# Altium integrated library Microchip Power Management Line Regulator.IntLib: 1174 symbols (part 8 of 31)
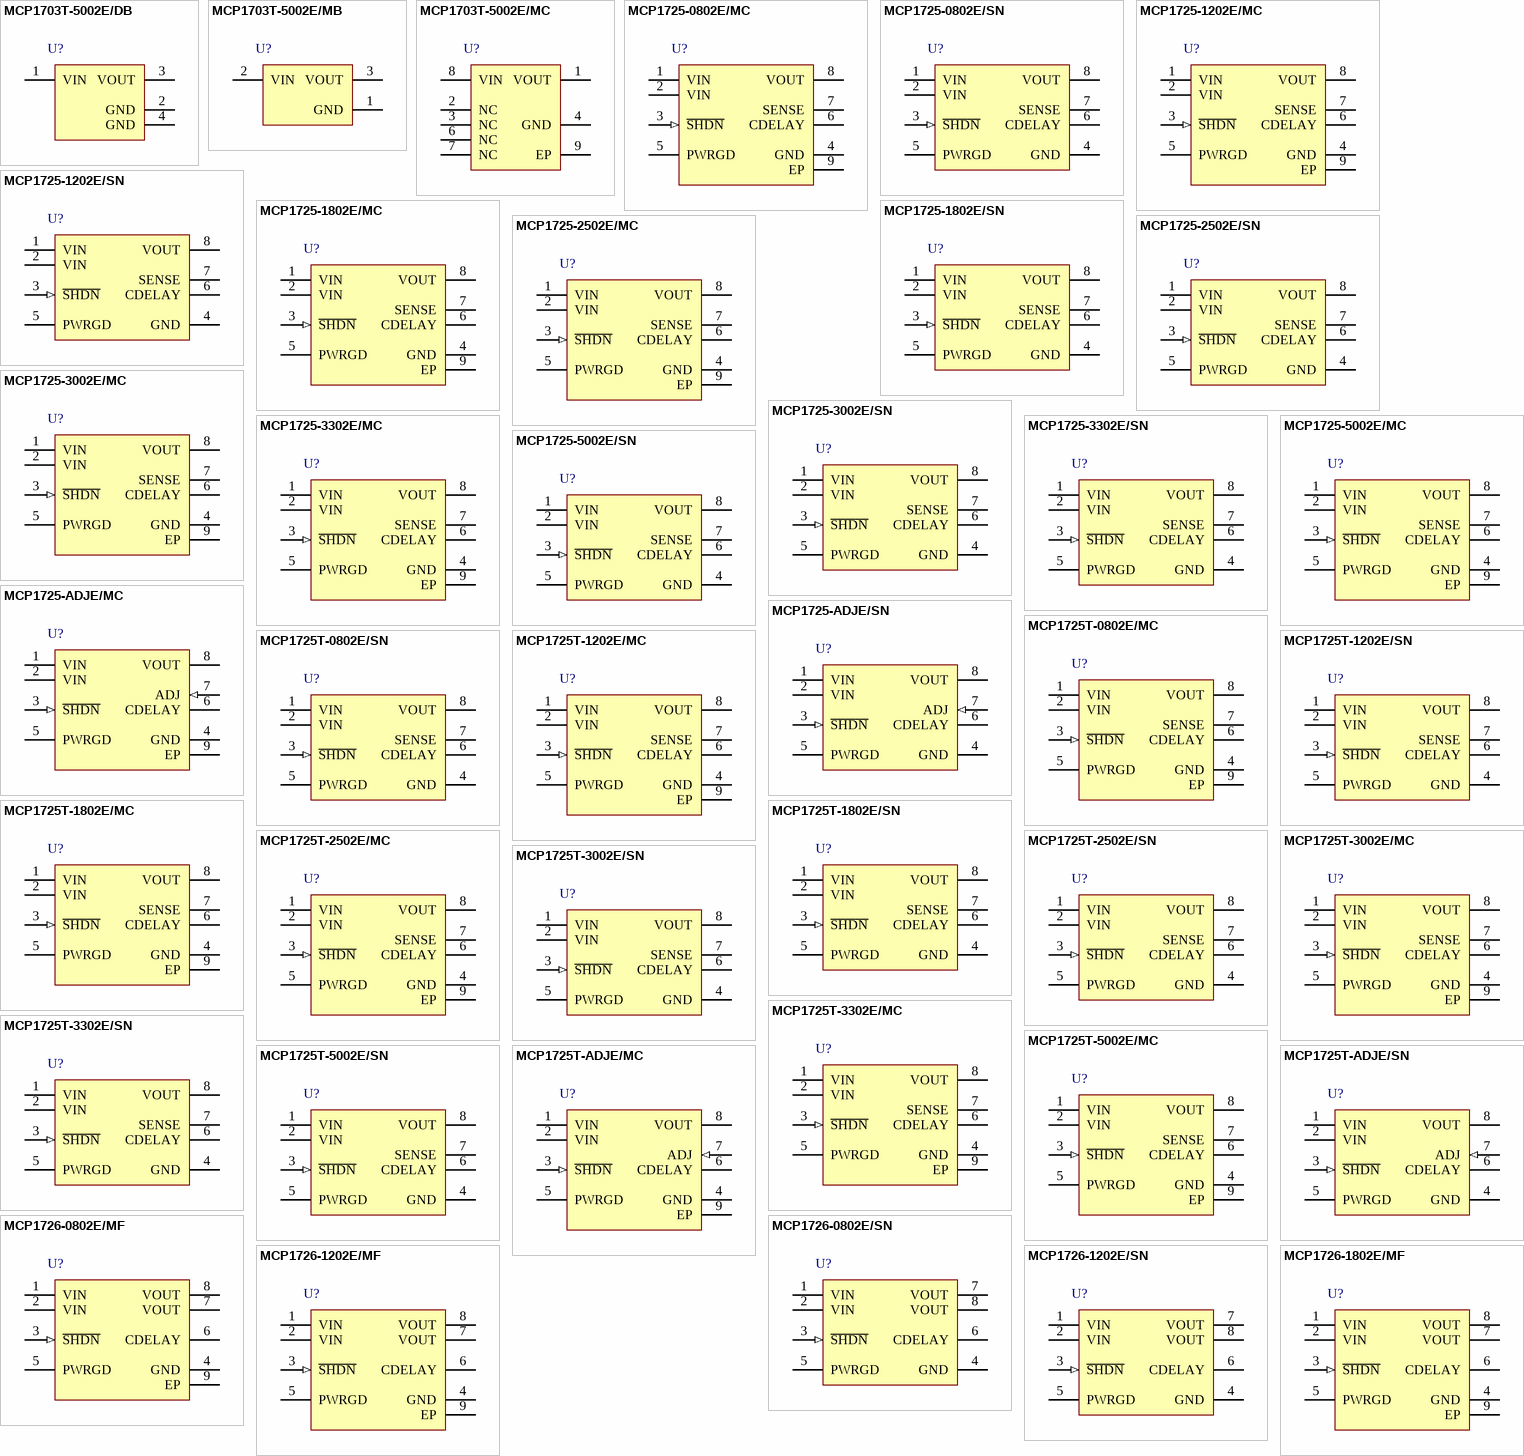
[diagram p37: symbols MCP1703T-5002E/DB to MCP1726-1802E/MF]

## MCP1725T-ADJE/MC
designator U?
500 mA, Low Voltage, Low Quiescent Current LDO Regulator, 8-Pin DFN, Extended Temperature, Tape and Reel; Manufacturer: Microchip; PartNumber: MCP1725T-ADJE/MC; DatasheetVersion: revB, Dec-2007; PackageVersion: revBB, Aug-2009; PackageReference: DFN-MC8; PackageDescription: 8-Lead Plastic Dual Flat, No Lead Package (MC) - 2x3x0.9mm Body [DFN]; Supplier 1: Digi-Key; Supplier Part Number 1: MCP1725T-ADJE/MC-ND; Supplier 2: Mouser; Supplier Part Number 2: 579-MCP1725T-ADJE/MC; Mounting Technology: Surface Mount; ComponentLink1Description: Manufacturer URL; ComponentLink1URL: http://www.microchip.com/; ComponentLink2Description: Datasheet; ComponentLink2URL: http://ww1.microchip.com/downloads/en/DeviceDoc/22026b.pdf; ComponentLink3Description: Package Specification; ComponentLink3URL: http://www.microchip.com/stellent/groups/techpub_sg/documents/packagingspec/en012702.pdf
footprint DFN-MC8 (SON, 8-Leads, Body 2x3mm, Pitch 0.5mm, Microchip Recommended)
pins: 1 VIN (power), 2 VIN (power), 3 ~{SHDN} (in), 4 GND (power), 5 PWRGD (power), 6 CDELAY, 7 ADJ (in), 8 VOUT (power), 9 EP (power)

## MCP1725T-ADJE/SN
designator U?
500 mA, Low Voltage, Low Quiescent Current LDO Regulator, 8-Pin SOIC 150mil, Extended Temperature, Tape and Reel; Manufacturer: Microchip; PartNumber: MCP1725T-ADJE/SN; DatasheetVersion: revB, Dec-2007; PackageVersion: revBB, Aug-2009; PackageReference: SOIC-SN8; PackageDescription: 8-Lead Plastic Small Outline (SN) - Narrow, 3.90mm Body [SOIC]; Supplier 1: Digi-Key; Supplier Part Number 1: MCP1725T-ADJE/SNTR-ND; Supplier 2: Mouser; Supplier Part Number 2: 579-MCP1725T-ADJE/SN; Mounting Technology: Surface Mount; Code_JEDEC: MS-012; Code_IPC: SOIC127P600-8; ComponentLink1Description: Manufacturer URL; ComponentLink1URL: http://www.microchip.com/; ComponentLink2Description: Datasheet; ComponentLink2URL: http://ww1.microchip.com/downloads/en/DeviceDoc/22026b.pdf; ComponentLink3Description: Package Specification; ComponentLink3URL: http://www.microchip.com/stellent/groups/techpub_sg/documents/packagingspec/en012702.pdf
footprint SOIC-SN8_N (SOIC, 8-Leads, Body 4.9x3.8mm, Pitch 1.27mm, IPC Medium Density)
footprint SOIC-SN8_L (SOIC, 8-Leads, Body 4.9x3.8mm, Pitch 1.27mm, IPC High Density)
footprint SOIC-SN8_M (SOIC, 8-Leads, Body 4.9x3.8mm, Pitch 1.27mm, IPC Low Density)
pins: 1 VIN (power), 2 VIN (power), 3 ~{SHDN} (in), 4 GND (power), 5 PWRGD (power), 6 CDELAY, 7 ADJ (in), 8 VOUT (power)

## MCP1726-0802E/MF
designator U?
1A, Low Voltage, Low Quiescent Current LDO Regulator, 8-Pin DFN, Extended Temperature; Manufacturer: Microchip; PartNumber: MCP1726-0802E/MF; DatasheetVersion: revC, Aug-2007; PackageVersion: revBB, Aug-2009; PackageReference: DFN-MF8; PackageDescription: 8-Lead Plastic Dual Flat, No Lead Package (MF) - 3x3x0.9mm Body [DFN]; Supplier 1: Digi-Key; Supplier Part Number 1: MCP1726-0802E/MF-ND; Supplier 2: Farnell; Supplier Part Number 2: 1851963; Supplier 3: Newark; Supplier Part Number 3: 08J8700; Supplier 4: Mouser; Supplier Part Number 4: 579-MCP1726-0802E/MF; Mounting Technology: Surface Mount; ComponentLink1Description: Manufacturer URL; ComponentLink1URL: http://www.microchip.com/; ComponentLink2Description: Datasheet; ComponentLink2URL: http://ww1.microchip.com/downloads/en/DeviceDoc/21936c.pdf; ComponentLink3Description: Package Specification; ComponentLink3URL: http://www.microchip.com/stellent/groups/techpub_sg/documents/packagingspec/en012702.pdf
footprint DFN-MF8 (SON, 8-Leads, Body 3x3mm, Pitch 0.65mm, Microchip Recommended)
pins: 1 VIN (power), 2 VIN (power), 3 ~{SHDN} (in), 4 GND (power), 5 PWRGD (power), 6 CDELAY, 7 VOUT (power), 8 VOUT (power), 9 EP (power)

## MCP1726-0802E/SN
designator U?
1A, Low Voltage, Low Quiescent Current LDO Regulator, 8-Pin SOIC 150mil, Extended Temperature; Manufacturer: Microchip; PartNumber: MCP1726-0802E/SN; DatasheetVersion: revC, Aug-2007; PackageVersion: revBB, Aug-2009; PackageReference: SOIC-SN8; PackageDescription: 8-Lead Plastic Small Outline (SN) - Narrow, 3.90mm Body [SOIC]; Supplier 1: Digi-Key; Supplier Part Number 1: MCP1726-0802E/SN-ND; Supplier 2: Farnell; Supplier Part Number 2: 1851964; Supplier 3: Newark; Supplier Part Number 3: 08J8701; Supplier 4: Mouser; Supplier Part Number 4: 579-MCP1726-0802E/SN; Mounting Technology: Surface Mount; Code_JEDEC: MS-012; Code_IPC: SOIC127P600-8; ComponentLink1Description: Manufacturer URL; ComponentLink1URL: http://www.microchip.com/; ComponentLink2Description: Datasheet; ComponentLink2URL: http://ww1.microchip.com/downloads/en/DeviceDoc/21936c.pdf; ComponentLink3Description: Package Specification; ComponentLink3URL: http://www.microchip.com/stellent/groups/techpub_sg/documents/packagingspec/en012702.pdf
footprint SOIC-SN8_N (SOIC, 8-Leads, Body 4.9x3.8mm, Pitch 1.27mm, IPC Medium Density)
footprint SOIC-SN8_L (SOIC, 8-Leads, Body 4.9x3.8mm, Pitch 1.27mm, IPC High Density)
footprint SOIC-SN8_M (SOIC, 8-Leads, Body 4.9x3.8mm, Pitch 1.27mm, IPC Low Density)
pins: 1 VIN (power), 2 VIN (power), 3 ~{SHDN} (in), 4 GND (power), 5 PWRGD (power), 6 CDELAY, 7 VOUT (power), 8 VOUT (power)

## MCP1726-1202E/MF
designator U?
1A, Low Voltage, Low Quiescent Current LDO Regulator, 8-Pin DFN, Extended Temperature; Manufacturer: Microchip; PartNumber: MCP1726-1202E/MF; DatasheetVersion: revC, Aug-2007; PackageVersion: revBB, Aug-2009; PackageReference: DFN-MF8; PackageDescription: 8-Lead Plastic Dual Flat, No Lead Package (MF) - 3x3x0.9mm Body [DFN]; Supplier 1: Digi-Key; Supplier Part Number 1: MCP1726-1202E/MF-ND; Supplier 2: Farnell; Supplier Part Number 2: 1851965; Supplier 3: Newark; Supplier Part Number 3: 08J8702; Supplier 4: Mouser; Supplier Part Number 4: 579-MCP1726-1202E/MF; Mounting Technology: Surface Mount; ComponentLink1Description: Manufacturer URL; ComponentLink1URL: http://www.microchip.com/; ComponentLink2Description: Datasheet; ComponentLink2URL: http://ww1.microchip.com/downloads/en/DeviceDoc/21936c.pdf; ComponentLink3Description: Package Specification; ComponentLink3URL: http://www.microchip.com/stellent/groups/techpub_sg/documents/packagingspec/en012702.pdf
footprint DFN-MF8 (SON, 8-Leads, Body 3x3mm, Pitch 0.65mm, Microchip Recommended)
pins: 1 VIN (power), 2 VIN (power), 3 ~{SHDN} (in), 4 GND (power), 5 PWRGD (power), 6 CDELAY, 7 VOUT (power), 8 VOUT (power), 9 EP (power)

## MCP1726-1202E/SN
designator U?
1A, Low Voltage, Low Quiescent Current LDO Regulator, 8-Pin SOIC 150mil, Extended Temperature; Manufacturer: Microchip; PartNumber: MCP1726-1202E/SN; DatasheetVersion: revC, Aug-2007; PackageVersion: revBB, Aug-2009; PackageReference: SOIC-SN8; PackageDescription: 8-Lead Plastic Small Outline (SN) - Narrow, 3.90mm Body [SOIC]; Supplier 1: Digi-Key; Supplier Part Number 1: MCP1726-1202E/SN-ND; Supplier 2: Farnell; Supplier Part Number 2: 1851966; Supplier 3: Newark; Supplier Part Number 3: 08J8703; Supplier 4: Mouser; Supplier Part Number 4: 579-MCP1726-1202E/SN; Mounting Technology: Surface Mount; Code_JEDEC: MS-012; Code_IPC: SOIC127P600-8; ComponentLink1Description: Manufacturer URL; ComponentLink1URL: http://www.microchip.com/; ComponentLink2Description: Datasheet; ComponentLink2URL: http://ww1.microchip.com/downloads/en/DeviceDoc/21936c.pdf; ComponentLink3Description: Package Specification; ComponentLink3URL: http://www.microchip.com/stellent/groups/techpub_sg/documents/packagingspec/en012702.pdf
footprint SOIC-SN8_N (SOIC, 8-Leads, Body 4.9x3.8mm, Pitch 1.27mm, IPC Medium Density)
footprint SOIC-SN8_L (SOIC, 8-Leads, Body 4.9x3.8mm, Pitch 1.27mm, IPC High Density)
footprint SOIC-SN8_M (SOIC, 8-Leads, Body 4.9x3.8mm, Pitch 1.27mm, IPC Low Density)
pins: 1 VIN (power), 2 VIN (power), 3 ~{SHDN} (in), 4 GND (power), 5 PWRGD (power), 6 CDELAY, 7 VOUT (power), 8 VOUT (power)

## MCP1726-1802E/MF
designator U?
1A, Low Voltage, Low Quiescent Current LDO Regulator, 8-Pin DFN, Extended Temperature; Manufacturer: Microchip; PartNumber: MCP1726-1802E/MF; DatasheetVersion: revC, Aug-2007; PackageVersion: revBB, Aug-2009; PackageReference: DFN-MF8; PackageDescription: 8-Lead Plastic Dual Flat, No Lead Package (MF) - 3x3x0.9mm Body [DFN]; Supplier 1: Digi-Key; Supplier Part Number 1: MCP1726-1802E/MF-ND; Supplier 2: Farnell; Supplier Part Number 2: 1851967; Supplier 3: Newark; Supplier Part Number 3: 08J8704; Supplier 4: Mouser; Supplier Part Number 4: 579-MCP1726-1802E/MF; Mounting Technology: Surface Mount; ComponentLink1Description: Manufacturer URL; ComponentLink1URL: http://www.microchip.com/; ComponentLink2Description: Datasheet; ComponentLink2URL: http://ww1.microchip.com/downloads/en/DeviceDoc/21936c.pdf; ComponentLink3Description: Package Specification; ComponentLink3URL: http://www.microchip.com/stellent/groups/techpub_sg/documents/packagingspec/en012702.pdf
footprint DFN-MF8 (SON, 8-Leads, Body 3x3mm, Pitch 0.65mm, Microchip Recommended)
pins: 1 VIN (power), 2 VIN (power), 3 ~{SHDN} (in), 4 GND (power), 5 PWRGD (power), 6 CDELAY, 7 VOUT (power), 8 VOUT (power), 9 EP (power)

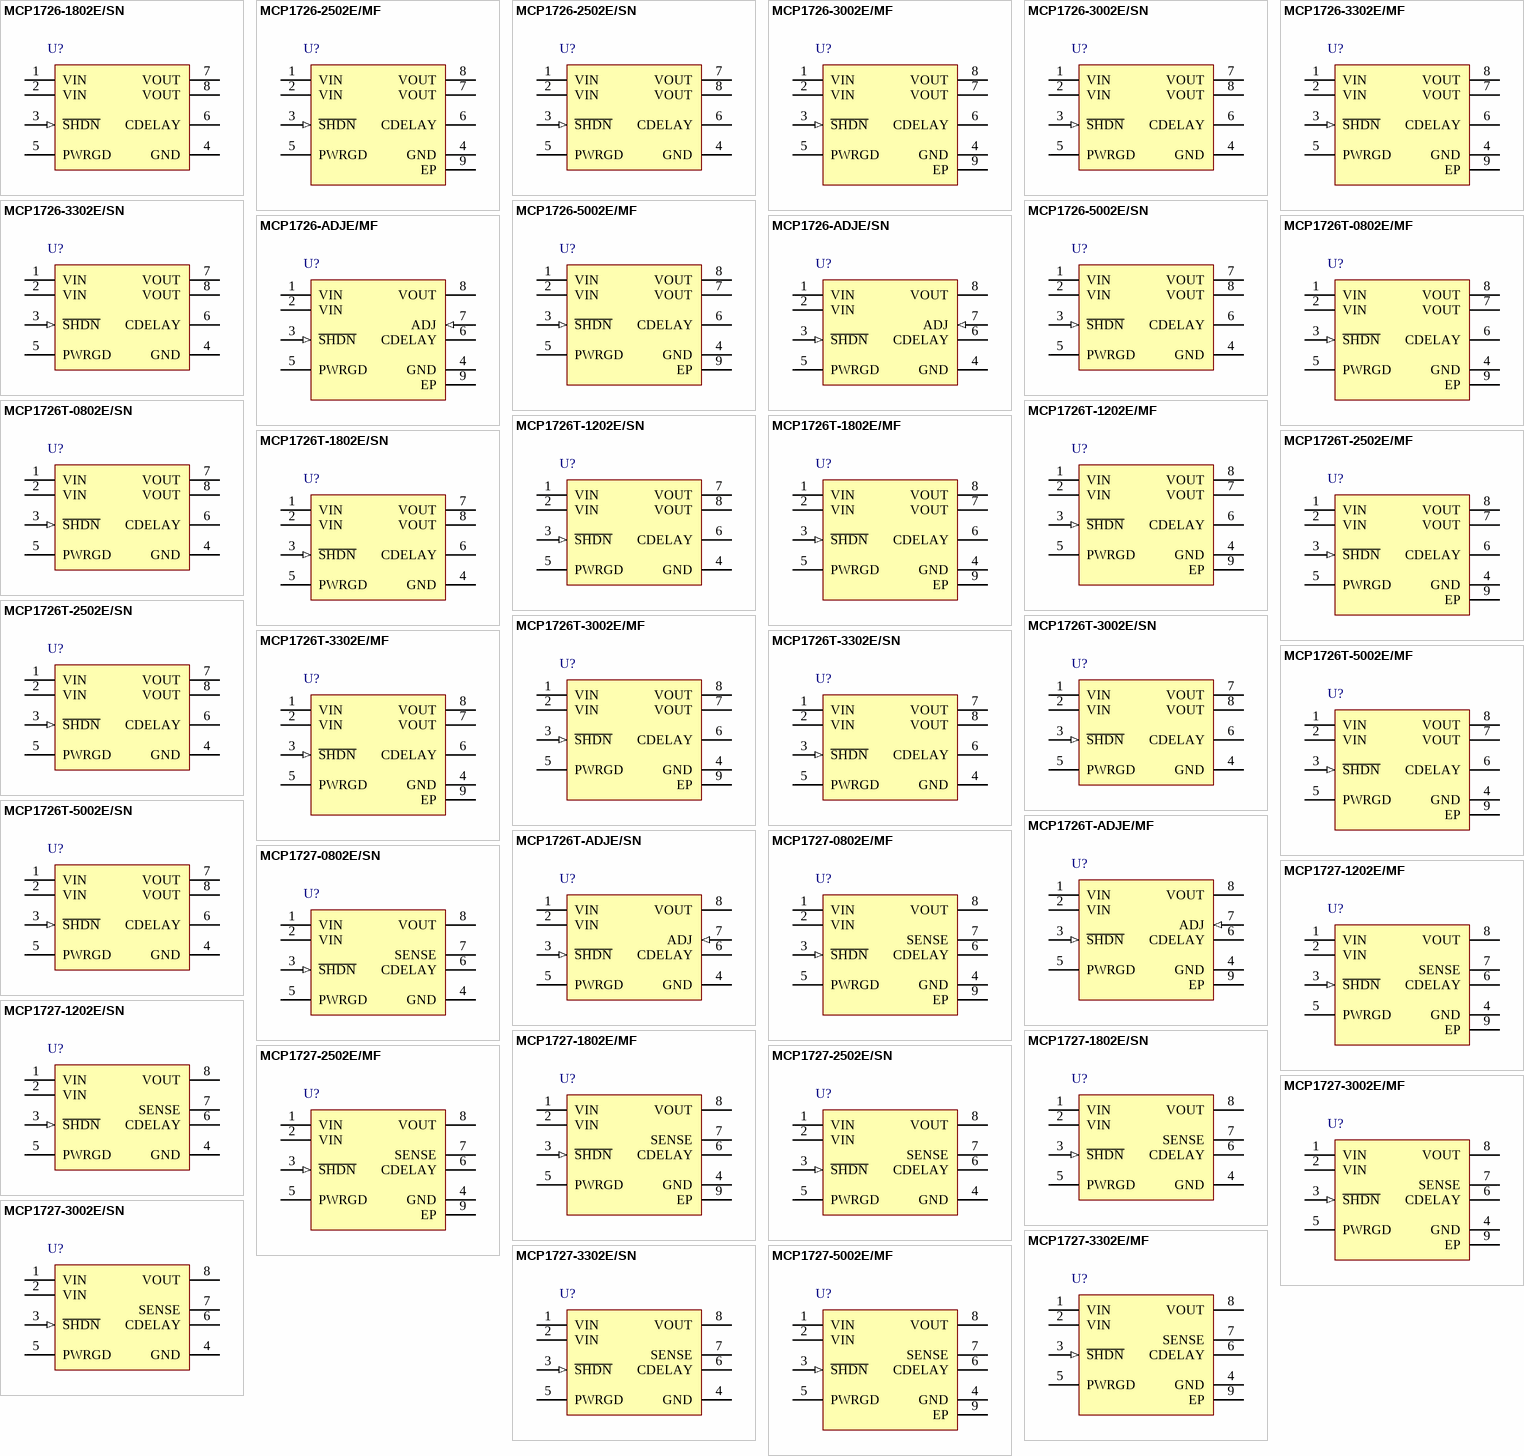
[diagram p7: symbols MCP1726-1802E/SN to MCP1727-5002E/MF]

## MCP1726-1802E/SN
designator U?
1A, Low Voltage, Low Quiescent Current LDO Regulator, 8-Pin SOIC 150mil, Extended Temperature; Manufacturer: Microchip; PartNumber: MCP1726-1802E/SN; DatasheetVersion: revC, Aug-2007; PackageVersion: revBB, Aug-2009; PackageReference: SOIC-SN8; PackageDescription: 8-Lead Plastic Small Outline (SN) - Narrow, 3.90mm Body [SOIC]; Supplier 1: Digi-Key; Supplier Part Number 1: MCP1726-1802E/SN-ND; Supplier 2: Mouser; Supplier Part Number 2: 579-MCP1726-1802E/SN; Mounting Technology: Surface Mount; Code_JEDEC: MS-012; Code_IPC: SOIC127P600-8; ComponentLink1Description: Manufacturer URL; ComponentLink1URL: http://www.microchip.com/; ComponentLink2Description: Datasheet; ComponentLink2URL: http://ww1.microchip.com/downloads/en/DeviceDoc/21936c.pdf; ComponentLink3Description: Package Specification; ComponentLink3URL: http://www.microchip.com/stellent/groups/techpub_sg/documents/packagingspec/en012702.pdf
footprint SOIC-SN8_N (SOIC, 8-Leads, Body 4.9x3.8mm, Pitch 1.27mm, IPC Medium Density)
footprint SOIC-SN8_L (SOIC, 8-Leads, Body 4.9x3.8mm, Pitch 1.27mm, IPC High Density)
footprint SOIC-SN8_M (SOIC, 8-Leads, Body 4.9x3.8mm, Pitch 1.27mm, IPC Low Density)
pins: 1 VIN (power), 2 VIN (power), 3 ~{SHDN} (in), 4 GND (power), 5 PWRGD (power), 6 CDELAY, 7 VOUT (power), 8 VOUT (power)

## MCP1726-2502E/MF
designator U?
1A, Low Voltage, Low Quiescent Current LDO Regulator, 8-Pin DFN, Extended Temperature; Manufacturer: Microchip; PartNumber: MCP1726-2502E/MF; DatasheetVersion: revC, Aug-2007; PackageVersion: revBB, Aug-2009; PackageReference: DFN-MF8; PackageDescription: 8-Lead Plastic Dual Flat, No Lead Package (MF) - 3x3x0.9mm Body [DFN]; Supplier 1: Digi-Key; Supplier Part Number 1: MCP1726-2502E/MF-ND; Supplier 2: Farnell; Supplier Part Number 2: 1851968; Supplier 3: Newark; Supplier Part Number 3: 08J8706; Supplier 4: Mouser; Supplier Part Number 4: 579-MCP1726-2502E/MF; Mounting Technology: Surface Mount; ComponentLink1Description: Manufacturer URL; ComponentLink1URL: http://www.microchip.com/; ComponentLink2Description: Datasheet; ComponentLink2URL: http://ww1.microchip.com/downloads/en/DeviceDoc/21936c.pdf; ComponentLink3Description: Package Specification; ComponentLink3URL: http://www.microchip.com/stellent/groups/techpub_sg/documents/packagingspec/en012702.pdf
footprint DFN-MF8 (SON, 8-Leads, Body 3x3mm, Pitch 0.65mm, Microchip Recommended)
pins: 1 VIN (power), 2 VIN (power), 3 ~{SHDN} (in), 4 GND (power), 5 PWRGD (power), 6 CDELAY, 7 VOUT (power), 8 VOUT (power), 9 EP (power)

## MCP1726-2502E/SN
designator U?
1A, Low Voltage, Low Quiescent Current LDO Regulator, 8-Pin SOIC 150mil, Extended Temperature; Manufacturer: Microchip; PartNumber: MCP1726-2502E/SN; DatasheetVersion: revC, Aug-2007; PackageVersion: revBB, Aug-2009; PackageReference: SOIC-SN8; PackageDescription: 8-Lead Plastic Small Outline (SN) - Narrow, 3.90mm Body [SOIC]; Supplier 1: Digi-Key; Supplier Part Number 1: MCP1726-2502E/SN-ND; Supplier 2: Farnell; Supplier Part Number 2: 1851969; Supplier 3: Newark; Supplier Part Number 3: 08J8707; Supplier 4: Mouser; Supplier Part Number 4: 579-MCP1726-2502E/SN; Mounting Technology: Surface Mount; Code_JEDEC: MS-012; Code_IPC: SOIC127P600-8; ComponentLink1Description: Manufacturer URL; ComponentLink1URL: http://www.microchip.com/; ComponentLink2Description: Datasheet; ComponentLink2URL: http://ww1.microchip.com/downloads/en/DeviceDoc/21936c.pdf; ComponentLink3Description: Package Specification; ComponentLink3URL: http://www.microchip.com/stellent/groups/techpub_sg/documents/packagingspec/en012702.pdf
footprint SOIC-SN8_N (SOIC, 8-Leads, Body 4.9x3.8mm, Pitch 1.27mm, IPC Medium Density)
footprint SOIC-SN8_L (SOIC, 8-Leads, Body 4.9x3.8mm, Pitch 1.27mm, IPC High Density)
footprint SOIC-SN8_M (SOIC, 8-Leads, Body 4.9x3.8mm, Pitch 1.27mm, IPC Low Density)
pins: 1 VIN (power), 2 VIN (power), 3 ~{SHDN} (in), 4 GND (power), 5 PWRGD (power), 6 CDELAY, 7 VOUT (power), 8 VOUT (power)

## MCP1726-3002E/MF
designator U?
1A, Low Voltage, Low Quiescent Current LDO Regulator, 8-Pin DFN, Extended Temperature; Manufacturer: Microchip; PartNumber: MCP1726-3002E/MF; DatasheetVersion: revC, Aug-2007; PackageVersion: revBB, Aug-2009; PackageReference: DFN-MF8; PackageDescription: 8-Lead Plastic Dual Flat, No Lead Package (MF) - 3x3x0.9mm Body [DFN]; Supplier 1: Digi-Key; Supplier Part Number 1: MCP1726-3002E/MF-ND; Supplier 2: Farnell; Supplier Part Number 2: 1863925; Supplier 3: Mouser; Supplier Part Number 3: N/A; Mounting Technology: Surface Mount; ComponentLink1Description: Manufacturer URL; ComponentLink1URL: http://www.microchip.com/; ComponentLink2Description: Datasheet; ComponentLink2URL: http://ww1.microchip.com/downloads/en/DeviceDoc/21936c.pdf; ComponentLink3Description: Package Specification; ComponentLink3URL: http://www.microchip.com/stellent/groups/techpub_sg/documents/packagingspec/en012702.pdf
footprint DFN-MF8 (SON, 8-Leads, Body 3x3mm, Pitch 0.65mm, Microchip Recommended)
pins: 1 VIN (power), 2 VIN (power), 3 ~{SHDN} (in), 4 GND (power), 5 PWRGD (power), 6 CDELAY, 7 VOUT (power), 8 VOUT (power), 9 EP (power)

## MCP1726-3002E/SN
designator U?
1A, Low Voltage, Low Quiescent Current LDO Regulator, 8-Pin SOIC 150mil, Extended Temperature; Manufacturer: Microchip; PartNumber: MCP1726-3002E/SN; DatasheetVersion: revC, Aug-2007; PackageVersion: revBB, Aug-2009; PackageReference: SOIC-SN8; PackageDescription: 8-Lead Plastic Small Outline (SN) - Narrow, 3.90mm Body [SOIC]; Supplier 1: Digi-Key; Supplier Part Number 1: MCP1726-3002E/SN-ND; Supplier 2: Farnell; Supplier Part Number 2: 1863926; Supplier 3: Mouser; Supplier Part Number 3: N/A; Mounting Technology: Surface Mount; Code_JEDEC: MS-012; Code_IPC: SOIC127P600-8; ComponentLink1Description: Manufacturer URL; ComponentLink1URL: http://www.microchip.com/; ComponentLink2Description: Datasheet; ComponentLink2URL: http://ww1.microchip.com/downloads/en/DeviceDoc/21936c.pdf; ComponentLink3Description: Package Specification; ComponentLink3URL: http://www.microchip.com/stellent/groups/techpub_sg/documents/packagingspec/en012702.pdf
footprint SOIC-SN8_N (SOIC, 8-Leads, Body 4.9x3.8mm, Pitch 1.27mm, IPC Medium Density)
footprint SOIC-SN8_L (SOIC, 8-Leads, Body 4.9x3.8mm, Pitch 1.27mm, IPC High Density)
footprint SOIC-SN8_M (SOIC, 8-Leads, Body 4.9x3.8mm, Pitch 1.27mm, IPC Low Density)
pins: 1 VIN (power), 2 VIN (power), 3 ~{SHDN} (in), 4 GND (power), 5 PWRGD (power), 6 CDELAY, 7 VOUT (power), 8 VOUT (power)

## MCP1726-3302E/MF
designator U?
1A, Low Voltage, Low Quiescent Current LDO Regulator, 8-Pin DFN, Extended Temperature; Manufacturer: Microchip; PartNumber: MCP1726-3302E/MF; DatasheetVersion: revC, Aug-2007; PackageVersion: revBB, Aug-2009; PackageReference: DFN-MF8; PackageDescription: 8-Lead Plastic Dual Flat, No Lead Package (MF) - 3x3x0.9mm Body [DFN]; Supplier 1: Digi-Key; Supplier Part Number 1: MCP1726-3302E/MF-ND; Supplier 2: Farnell; Supplier Part Number 2: 1851970; Supplier 3: Newark; Supplier Part Number 3: 08J8708; Supplier 4: Mouser; Supplier Part Number 4: 579-MCP1726-3302E/MF; Mounting Technology: Surface Mount; ComponentLink1Description: Manufacturer URL; ComponentLink1URL: http://www.microchip.com/; ComponentLink2Description: Datasheet; ComponentLink2URL: http://ww1.microchip.com/downloads/en/DeviceDoc/21936c.pdf; ComponentLink3Description: Package Specification; ComponentLink3URL: http://www.microchip.com/stellent/groups/techpub_sg/documents/packagingspec/en012702.pdf
footprint DFN-MF8 (SON, 8-Leads, Body 3x3mm, Pitch 0.65mm, Microchip Recommended)
pins: 1 VIN (power), 2 VIN (power), 3 ~{SHDN} (in), 4 GND (power), 5 PWRGD (power), 6 CDELAY, 7 VOUT (power), 8 VOUT (power), 9 EP (power)

## MCP1726-3302E/SN
designator U?
1A, Low Voltage, Low Quiescent Current LDO Regulator, 8-Pin SOIC 150mil, Extended Temperature; Manufacturer: Microchip; PartNumber: MCP1726-3302E/SN; DatasheetVersion: revC, Aug-2007; PackageVersion: revBB, Aug-2009; PackageReference: SOIC-SN8; PackageDescription: 8-Lead Plastic Small Outline (SN) - Narrow, 3.90mm Body [SOIC]; Supplier 1: Digi-Key; Supplier Part Number 1: MCP1726-3302E/SN-ND; Supplier 2: Farnell; Supplier Part Number 2: 1331493; Supplier 3: Newark; Supplier Part Number 3: 34M7426; Supplier 4: Mouser; Supplier Part Number 4: 579-MCP1726-3302E/SN; Mounting Technology: Surface Mount; Code_JEDEC: MS-012; Code_IPC: SOIC127P600-8; ComponentLink1Description: Manufacturer URL; ComponentLink1URL: http://www.microchip.com/; ComponentLink2Description: Datasheet; ComponentLink2URL: http://ww1.microchip.com/downloads/en/DeviceDoc/21936c.pdf; ComponentLink3Description: Package Specification; ComponentLink3URL: http://www.microchip.com/stellent/groups/techpub_sg/documents/packagingspec/en012702.pdf
footprint SOIC-SN8_N (SOIC, 8-Leads, Body 4.9x3.8mm, Pitch 1.27mm, IPC Medium Density)
footprint SOIC-SN8_L (SOIC, 8-Leads, Body 4.9x3.8mm, Pitch 1.27mm, IPC High Density)
footprint SOIC-SN8_M (SOIC, 8-Leads, Body 4.9x3.8mm, Pitch 1.27mm, IPC Low Density)
pins: 1 VIN (power), 2 VIN (power), 3 ~{SHDN} (in), 4 GND (power), 5 PWRGD (power), 6 CDELAY, 7 VOUT (power), 8 VOUT (power)

## MCP1726-5002E/MF
designator U?
1A, Low Voltage, Low Quiescent Current LDO Regulator, 8-Pin DFN, Extended Temperature; Manufacturer: Microchip; PartNumber: MCP1726-5002E/MF; DatasheetVersion: revC, Aug-2007; PackageVersion: revBB, Aug-2009; PackageReference: DFN-MF8; PackageDescription: 8-Lead Plastic Dual Flat, No Lead Package (MF) - 3x3x0.9mm Body [DFN]; Supplier 1: Digi-Key; Supplier Part Number 1: MCP1726-5002E/MF-ND; Supplier 2: Farnell; Supplier Part Number 2: 1863928; Supplier 3: Newark; Supplier Part Number 3: 08J8710; Supplier 4: Mouser; Supplier Part Number 4: 579-MCP1726-5002E/MF; Mounting Technology: Surface Mount; ComponentLink1Description: Manufacturer URL; ComponentLink1URL: http://www.microchip.com/; ComponentLink2Description: Datasheet; ComponentLink2URL: http://ww1.microchip.com/downloads/en/DeviceDoc/21936c.pdf; ComponentLink3Description: Package Specification; ComponentLink3URL: http://www.microchip.com/stellent/groups/techpub_sg/documents/packagingspec/en012702.pdf
footprint DFN-MF8 (SON, 8-Leads, Body 3x3mm, Pitch 0.65mm, Microchip Recommended)
pins: 1 VIN (power), 2 VIN (power), 3 ~{SHDN} (in), 4 GND (power), 5 PWRGD (power), 6 CDELAY, 7 VOUT (power), 8 VOUT (power), 9 EP (power)

## MCP1726-5002E/SN
designator U?
1A, Low Voltage, Low Quiescent Current LDO Regulator, 8-Pin SOIC 150mil, Extended Temperature; Manufacturer: Microchip; PartNumber: MCP1726-5002E/SN; DatasheetVersion: revC, Aug-2007; PackageVersion: revBB, Aug-2009; PackageReference: SOIC-SN8; PackageDescription: 8-Lead Plastic Small Outline (SN) - Narrow, 3.90mm Body [SOIC]; Supplier 1: Digi-Key; Supplier Part Number 1: MCP1726-5002E/SN-ND; Supplier 2: Mouser; Supplier Part Number 2: 579-MCP1726-5002E/SN; Mounting Technology: Surface Mount; Code_JEDEC: MS-012; Code_IPC: SOIC127P600-8; ComponentLink1Description: Manufacturer URL; ComponentLink1URL: http://www.microchip.com/; ComponentLink2Description: Datasheet; ComponentLink2URL: http://ww1.microchip.com/downloads/en/DeviceDoc/21936c.pdf; ComponentLink3Description: Package Specification; ComponentLink3URL: http://www.microchip.com/stellent/groups/techpub_sg/documents/packagingspec/en012702.pdf
footprint SOIC-SN8_N (SOIC, 8-Leads, Body 4.9x3.8mm, Pitch 1.27mm, IPC Medium Density)
footprint SOIC-SN8_L (SOIC, 8-Leads, Body 4.9x3.8mm, Pitch 1.27mm, IPC High Density)
footprint SOIC-SN8_M (SOIC, 8-Leads, Body 4.9x3.8mm, Pitch 1.27mm, IPC Low Density)
pins: 1 VIN (power), 2 VIN (power), 3 ~{SHDN} (in), 4 GND (power), 5 PWRGD (power), 6 CDELAY, 7 VOUT (power), 8 VOUT (power)

## MCP1726-ADJE/MF
designator U?
1A, Low Voltage, Low Quiescent Current LDO Regulator, 8-Pin DFN, Extended Temperature; Manufacturer: Microchip; PartNumber: MCP1726-ADJE/MF; DatasheetVersion: revC, Aug-2007; PackageVersion: revBB, Aug-2009; PackageReference: DFN-MF8; PackageDescription: 8-Lead Plastic Dual Flat, No Lead Package (MF) - 3x3x0.9mm Body [DFN]; Supplier 1: Digi-Key; Supplier Part Number 1: MCP1726-ADJE/MF-ND; Supplier 2: Farnell; Supplier Part Number 2: 1851971; Supplier 3: Newark; Supplier Part Number 3: 22K1362; Supplier 4: Mouser; Supplier Part Number 4: 579-MCP1726-ADJE/MF; Mounting Technology: Surface Mount; ComponentLink1Description: Manufacturer URL; ComponentLink1URL: http://www.microchip.com/; ComponentLink2Description: Datasheet; ComponentLink2URL: http://ww1.microchip.com/downloads/en/DeviceDoc/21936c.pdf; ComponentLink3Description: Package Specification; ComponentLink3URL: http://www.microchip.com/stellent/groups/techpub_sg/documents/packagingspec/en012702.pdf
footprint DFN-MF8 (SON, 8-Leads, Body 3x3mm, Pitch 0.65mm, Microchip Recommended)
pins: 1 VIN (power), 2 VIN (power), 3 ~{SHDN} (in), 4 GND (power), 5 PWRGD (power), 6 CDELAY, 7 ADJ (in), 8 VOUT (power), 9 EP (power)

## MCP1726-ADJE/SN
designator U?
1A, Low Voltage, Low Quiescent Current LDO Regulator, 8-Pin SOIC 150mil, Extended Temperature; Manufacturer: Microchip; PartNumber: MCP1726-ADJE/SN; DatasheetVersion: revC, Aug-2007; PackageVersion: revBB, Aug-2009; PackageReference: SOIC-SN8; PackageDescription: 8-Lead Plastic Small Outline (SN) - Narrow, 3.90mm Body [SOIC]; Supplier 1: Digi-Key; Supplier Part Number 1: MCP1726-ADJE/SN-ND; Supplier 2: Farnell; Supplier Part Number 2: 1834879; Supplier 3: Newark; Supplier Part Number 3: 22K1363; Supplier 4: Mouser; Supplier Part Number 4: 579-MCP1726-ADJE/SN; Mounting Technology: Surface Mount; Code_JEDEC: MS-012; Code_IPC: SOIC127P600-8; ComponentLink1Description: Manufacturer URL; ComponentLink1URL: http://www.microchip.com/; ComponentLink2Description: Datasheet; ComponentLink2URL: http://ww1.microchip.com/downloads/en/DeviceDoc/21936c.pdf; ComponentLink3Description: Package Specification; ComponentLink3URL: http://www.microchip.com/stellent/groups/techpub_sg/documents/packagingspec/en012702.pdf
footprint SOIC-SN8_N (SOIC, 8-Leads, Body 4.9x3.8mm, Pitch 1.27mm, IPC Medium Density)
footprint SOIC-SN8_L (SOIC, 8-Leads, Body 4.9x3.8mm, Pitch 1.27mm, IPC High Density)
footprint SOIC-SN8_M (SOIC, 8-Leads, Body 4.9x3.8mm, Pitch 1.27mm, IPC Low Density)
pins: 1 VIN (power), 2 VIN (power), 3 ~{SHDN} (in), 4 GND (power), 5 PWRGD (power), 6 CDELAY, 7 ADJ (in), 8 VOUT (power)

## MCP1726T-0802E/MF
designator U?
1A, Low Voltage, Low Quiescent Current LDO Regulator, 8-Pin DFN, Extended Temperature, Tape and Reel; Manufacturer: Microchip; PartNumber: MCP1726T-0802E/MF; DatasheetVersion: revC, Aug-2007; PackageVersion: revBB, Aug-2009; PackageReference: DFN-MF8; PackageDescription: 8-Lead Plastic Dual Flat, No Lead Package (MF) - 3x3x0.9mm Body [DFN]; Supplier 1: Digi-Key; Supplier Part Number 1: MCP1726T-0802E/MF-ND; Supplier 2: Mouser; Supplier Part Number 2: 579-MCP1726T0802E/MF; Mounting Technology: Surface Mount; ComponentLink1Description: Manufacturer URL; ComponentLink1URL: http://www.microchip.com/; ComponentLink2Description: Datasheet; ComponentLink2URL: http://ww1.microchip.com/downloads/en/DeviceDoc/21936c.pdf; ComponentLink3Description: Package Specification; ComponentLink3URL: http://www.microchip.com/stellent/groups/techpub_sg/documents/packagingspec/en012702.pdf
footprint DFN-MF8 (SON, 8-Leads, Body 3x3mm, Pitch 0.65mm, Microchip Recommended)
pins: 1 VIN (power), 2 VIN (power), 3 ~{SHDN} (in), 4 GND (power), 5 PWRGD (power), 6 CDELAY, 7 VOUT (power), 8 VOUT (power), 9 EP (power)

## MCP1726T-0802E/SN
designator U?
1A, Low Voltage, Low Quiescent Current LDO Regulator, 8-Pin SOIC 150mil, Extended Temperature, Tape and Reel; Manufacturer: Microchip; PartNumber: MCP1726T-0802E/SN; DatasheetVersion: revC, Aug-2007; PackageVersion: revBB, Aug-2009; PackageReference: SOIC-SN8; PackageDescription: 8-Lead Plastic Small Outline (SN) - Narrow, 3.90mm Body [SOIC]; Supplier 1: Digi-Key; Supplier Part Number 1: MCP1726T-0802E/SN-ND; Supplier 2: Mouser; Supplier Part Number 2: 579-MCP1726T0802E/SN; Mounting Technology: Surface Mount; Code_JEDEC: MS-012; Code_IPC: SOIC127P600-8; ComponentLink1Description: Manufacturer URL; ComponentLink1URL: http://www.microchip.com/; ComponentLink2Description: Datasheet; ComponentLink2URL: http://ww1.microchip.com/downloads/en/DeviceDoc/21936c.pdf; ComponentLink3Description: Package Specification; ComponentLink3URL: http://www.microchip.com/stellent/groups/techpub_sg/documents/packagingspec/en012702.pdf
footprint SOIC-SN8_N (SOIC, 8-Leads, Body 4.9x3.8mm, Pitch 1.27mm, IPC Medium Density)
footprint SOIC-SN8_L (SOIC, 8-Leads, Body 4.9x3.8mm, Pitch 1.27mm, IPC High Density)
footprint SOIC-SN8_M (SOIC, 8-Leads, Body 4.9x3.8mm, Pitch 1.27mm, IPC Low Density)
pins: 1 VIN (power), 2 VIN (power), 3 ~{SHDN} (in), 4 GND (power), 5 PWRGD (power), 6 CDELAY, 7 VOUT (power), 8 VOUT (power)

## MCP1726T-1202E/MF
designator U?
1A, Low Voltage, Low Quiescent Current LDO Regulator, 8-Pin DFN, Extended Temperature, Tape and Reel; Manufacturer: Microchip; PartNumber: MCP1726T-1202E/MF; DatasheetVersion: revC, Aug-2007; PackageVersion: revBB, Aug-2009; PackageReference: DFN-MF8; PackageDescription: 8-Lead Plastic Dual Flat, No Lead Package (MF) - 3x3x0.9mm Body [DFN]; Supplier 1: Digi-Key; Supplier Part Number 1: MCP1726T-1202E/MF-ND; Supplier 2: Mouser; Supplier Part Number 2: 579-MCP1726T1202E/MF; Mounting Technology: Surface Mount; ComponentLink1Description: Manufacturer URL; ComponentLink1URL: http://www.microchip.com/; ComponentLink2Description: Datasheet; ComponentLink2URL: http://ww1.microchip.com/downloads/en/DeviceDoc/21936c.pdf; ComponentLink3Description: Package Specification; ComponentLink3URL: http://www.microchip.com/stellent/groups/techpub_sg/documents/packagingspec/en012702.pdf
footprint DFN-MF8 (SON, 8-Leads, Body 3x3mm, Pitch 0.65mm, Microchip Recommended)
pins: 1 VIN (power), 2 VIN (power), 3 ~{SHDN} (in), 4 GND (power), 5 PWRGD (power), 6 CDELAY, 7 VOUT (power), 8 VOUT (power), 9 EP (power)

## MCP1726T-1202E/SN
designator U?
1A, Low Voltage, Low Quiescent Current LDO Regulator, 8-Pin SOIC 150mil, Extended Temperature, Tape and Reel; Manufacturer: Microchip; PartNumber: MCP1726T-1202E/SN; DatasheetVersion: revC, Aug-2007; PackageVersion: revBB, Aug-2009; PackageReference: SOIC-SN8; PackageDescription: 8-Lead Plastic Small Outline (SN) - Narrow, 3.90mm Body [SOIC]; Supplier 1: Digi-Key; Supplier Part Number 1: MCP1726T-1202E/SN-ND; Supplier 2: Mouser; Supplier Part Number 2: 579-MCP1726T1202E/SN; Mounting Technology: Surface Mount; Code_JEDEC: MS-012; Code_IPC: SOIC127P600-8; ComponentLink1Description: Manufacturer URL; ComponentLink1URL: http://www.microchip.com/; ComponentLink2Description: Datasheet; ComponentLink2URL: http://ww1.microchip.com/downloads/en/DeviceDoc/21936c.pdf; ComponentLink3Description: Package Specification; ComponentLink3URL: http://www.microchip.com/stellent/groups/techpub_sg/documents/packagingspec/en012702.pdf
footprint SOIC-SN8_N (SOIC, 8-Leads, Body 4.9x3.8mm, Pitch 1.27mm, IPC Medium Density)
footprint SOIC-SN8_L (SOIC, 8-Leads, Body 4.9x3.8mm, Pitch 1.27mm, IPC High Density)
footprint SOIC-SN8_M (SOIC, 8-Leads, Body 4.9x3.8mm, Pitch 1.27mm, IPC Low Density)
pins: 1 VIN (power), 2 VIN (power), 3 ~{SHDN} (in), 4 GND (power), 5 PWRGD (power), 6 CDELAY, 7 VOUT (power), 8 VOUT (power)

## MCP1726T-1802E/MF
designator U?
1A, Low Voltage, Low Quiescent Current LDO Regulator, 8-Pin DFN, Extended Temperature, Tape and Reel; Manufacturer: Microchip; PartNumber: MCP1726T-1802E/MF; DatasheetVersion: revC, Aug-2007; PackageVersion: revBB, Aug-2009; PackageReference: DFN-MF8; PackageDescription: 8-Lead Plastic Dual Flat, No Lead Package (MF) - 3x3x0.9mm Body [DFN]; Supplier 1: Digi-Key; Supplier Part Number 1: MCP1726T-1802E/MF-ND; Supplier 2: Mouser; Supplier Part Number 2: 579-MCP1726T1802E/MF; Mounting Technology: Surface Mount; ComponentLink1Description: Manufacturer URL; ComponentLink1URL: http://www.microchip.com/; ComponentLink2Description: Datasheet; ComponentLink2URL: http://ww1.microchip.com/downloads/en/DeviceDoc/21936c.pdf; ComponentLink3Description: Package Specification; ComponentLink3URL: http://www.microchip.com/stellent/groups/techpub_sg/documents/packagingspec/en012702.pdf
footprint DFN-MF8 (SON, 8-Leads, Body 3x3mm, Pitch 0.65mm, Microchip Recommended)
pins: 1 VIN (power), 2 VIN (power), 3 ~{SHDN} (in), 4 GND (power), 5 PWRGD (power), 6 CDELAY, 7 VOUT (power), 8 VOUT (power), 9 EP (power)

## MCP1726T-1802E/SN
designator U?
1A, Low Voltage, Low Quiescent Current LDO Regulator, 8-Pin SOIC 150mil, Extended Temperature, Tape and Reel; Manufacturer: Microchip; PartNumber: MCP1726T-1802E/SN; DatasheetVersion: revC, Aug-2007; PackageVersion: revBB, Aug-2009; PackageReference: SOIC-SN8; PackageDescription: 8-Lead Plastic Small Outline (SN) - Narrow, 3.90mm Body [SOIC]; Supplier 1: Digi-Key; Supplier Part Number 1: MCP1726T-1802E/SN-ND; Supplier 2: Mouser; Supplier Part Number 2: 579-MCP1726T1802E/SN; Mounting Technology: Surface Mount; Code_JEDEC: MS-012; Code_IPC: SOIC127P600-8; ComponentLink1Description: Manufacturer URL; ComponentLink1URL: http://www.microchip.com/; ComponentLink2Description: Datasheet; ComponentLink2URL: http://ww1.microchip.com/downloads/en/DeviceDoc/21936c.pdf; ComponentLink3Description: Package Specification; ComponentLink3URL: http://www.microchip.com/stellent/groups/techpub_sg/documents/packagingspec/en012702.pdf
footprint SOIC-SN8_N (SOIC, 8-Leads, Body 4.9x3.8mm, Pitch 1.27mm, IPC Medium Density)
footprint SOIC-SN8_L (SOIC, 8-Leads, Body 4.9x3.8mm, Pitch 1.27mm, IPC High Density)
footprint SOIC-SN8_M (SOIC, 8-Leads, Body 4.9x3.8mm, Pitch 1.27mm, IPC Low Density)
pins: 1 VIN (power), 2 VIN (power), 3 ~{SHDN} (in), 4 GND (power), 5 PWRGD (power), 6 CDELAY, 7 VOUT (power), 8 VOUT (power)

## MCP1726T-2502E/MF
designator U?
1A, Low Voltage, Low Quiescent Current LDO Regulator, 8-Pin DFN, Extended Temperature, Tape and Reel; Manufacturer: Microchip; PartNumber: MCP1726T-2502E/MF; DatasheetVersion: revC, Aug-2007; PackageVersion: revBB, Aug-2009; PackageReference: DFN-MF8; PackageDescription: 8-Lead Plastic Dual Flat, No Lead Package (MF) - 3x3x0.9mm Body [DFN]; Supplier 1: Digi-Key; Supplier Part Number 1: MCP1726T-2502E/MF-ND; Supplier 2: Mouser; Supplier Part Number 2: 579-MCP1726T2502E/MF; Mounting Technology: Surface Mount; ComponentLink1Description: Manufacturer URL; ComponentLink1URL: http://www.microchip.com/; ComponentLink2Description: Datasheet; ComponentLink2URL: http://ww1.microchip.com/downloads/en/DeviceDoc/21936c.pdf; ComponentLink3Description: Package Specification; ComponentLink3URL: http://www.microchip.com/stellent/groups/techpub_sg/documents/packagingspec/en012702.pdf
footprint DFN-MF8 (SON, 8-Leads, Body 3x3mm, Pitch 0.65mm, Microchip Recommended)
pins: 1 VIN (power), 2 VIN (power), 3 ~{SHDN} (in), 4 GND (power), 5 PWRGD (power), 6 CDELAY, 7 VOUT (power), 8 VOUT (power), 9 EP (power)

## MCP1726T-2502E/SN
designator U?
1A, Low Voltage, Low Quiescent Current LDO Regulator, 8-Pin SOIC 150mil, Extended Temperature, Tape and Reel; Manufacturer: Microchip; PartNumber: MCP1726T-2502E/SN; DatasheetVersion: revC, Aug-2007; PackageVersion: revBB, Aug-2009; PackageReference: SOIC-SN8; PackageDescription: 8-Lead Plastic Small Outline (SN) - Narrow, 3.90mm Body [SOIC]; Supplier 1: Digi-Key; Supplier Part Number 1: MCP1726T-2502E/SN-ND; Supplier 2: Mouser; Supplier Part Number 2: 579-MCP1726T2502E/SN; Mounting Technology: Surface Mount; Code_JEDEC: MS-012; Code_IPC: SOIC127P600-8; ComponentLink1Description: Manufacturer URL; ComponentLink1URL: http://www.microchip.com/; ComponentLink2Description: Datasheet; ComponentLink2URL: http://ww1.microchip.com/downloads/en/DeviceDoc/21936c.pdf; ComponentLink3Description: Package Specification; ComponentLink3URL: http://www.microchip.com/stellent/groups/techpub_sg/documents/packagingspec/en012702.pdf
footprint SOIC-SN8_N (SOIC, 8-Leads, Body 4.9x3.8mm, Pitch 1.27mm, IPC Medium Density)
footprint SOIC-SN8_L (SOIC, 8-Leads, Body 4.9x3.8mm, Pitch 1.27mm, IPC High Density)
footprint SOIC-SN8_M (SOIC, 8-Leads, Body 4.9x3.8mm, Pitch 1.27mm, IPC Low Density)
pins: 1 VIN (power), 2 VIN (power), 3 ~{SHDN} (in), 4 GND (power), 5 PWRGD (power), 6 CDELAY, 7 VOUT (power), 8 VOUT (power)

## MCP1726T-3002E/MF
designator U?
1A, Low Voltage, Low Quiescent Current LDO Regulator, 8-Pin DFN, Extended Temperature, Tape and Reel; Manufacturer: Microchip; PartNumber: MCP1726T-3002E/MF; DatasheetVersion: revC, Aug-2007; PackageVersion: revBB, Aug-2009; PackageReference: DFN-MF8; PackageDescription: 8-Lead Plastic Dual Flat, No Lead Package (MF) - 3x3x0.9mm Body [DFN]; Mounting Technology: Surface Mount; ComponentLink1Description: Manufacturer URL; ComponentLink1URL: http://www.microchip.com/; ComponentLink2Description: Datasheet; ComponentLink2URL: http://ww1.microchip.com/downloads/en/DeviceDoc/21936c.pdf; ComponentLink3Description: Package Specification; ComponentLink3URL: http://www.microchip.com/stellent/groups/techpub_sg/documents/packagingspec/en012702.pdf
footprint DFN-MF8 (SON, 8-Leads, Body 3x3mm, Pitch 0.65mm, Microchip Recommended)
pins: 1 VIN (power), 2 VIN (power), 3 ~{SHDN} (in), 4 GND (power), 5 PWRGD (power), 6 CDELAY, 7 VOUT (power), 8 VOUT (power), 9 EP (power)

## MCP1726T-3002E/SN
designator U?
1A, Low Voltage, Low Quiescent Current LDO Regulator, 8-Pin SOIC 150mil, Extended Temperature, Tape and Reel; Manufacturer: Microchip; PartNumber: MCP1726T-3002E/SN; DatasheetVersion: revC, Aug-2007; PackageVersion: revBB, Aug-2009; PackageReference: SOIC-SN8; PackageDescription: 8-Lead Plastic Small Outline (SN) - Narrow, 3.90mm Body [SOIC]; Mounting Technology: Surface Mount; Code_JEDEC: MS-012; Code_IPC: SOIC127P600-8; ComponentLink1Description: Manufacturer URL; ComponentLink1URL: http://www.microchip.com/; ComponentLink2Description: Datasheet; ComponentLink2URL: http://ww1.microchip.com/downloads/en/DeviceDoc/21936c.pdf; ComponentLink3Description: Package Specification; ComponentLink3URL: http://www.microchip.com/stellent/groups/techpub_sg/documents/packagingspec/en012702.pdf
footprint SOIC-SN8_N (SOIC, 8-Leads, Body 4.9x3.8mm, Pitch 1.27mm, IPC Medium Density)
footprint SOIC-SN8_L (SOIC, 8-Leads, Body 4.9x3.8mm, Pitch 1.27mm, IPC High Density)
footprint SOIC-SN8_M (SOIC, 8-Leads, Body 4.9x3.8mm, Pitch 1.27mm, IPC Low Density)
pins: 1 VIN (power), 2 VIN (power), 3 ~{SHDN} (in), 4 GND (power), 5 PWRGD (power), 6 CDELAY, 7 VOUT (power), 8 VOUT (power)

## MCP1726T-3302E/MF
designator U?
1A, Low Voltage, Low Quiescent Current LDO Regulator, 8-Pin DFN, Extended Temperature, Tape and Reel; Manufacturer: Microchip; PartNumber: MCP1726T-3302E/MF; DatasheetVersion: revC, Aug-2007; PackageVersion: revBB, Aug-2009; PackageReference: DFN-MF8; PackageDescription: 8-Lead Plastic Dual Flat, No Lead Package (MF) - 3x3x0.9mm Body [DFN]; Supplier 1: Digi-Key; Supplier Part Number 1: MCP1726T-3302E/MF-ND; Supplier 2: Mouser; Supplier Part Number 2: 579-MCP1726T3302E/MF; Mounting Technology: Surface Mount; ComponentLink1Description: Manufacturer URL; ComponentLink1URL: http://www.microchip.com/; ComponentLink2Description: Datasheet; ComponentLink2URL: http://ww1.microchip.com/downloads/en/DeviceDoc/21936c.pdf; ComponentLink3Description: Package Specification; ComponentLink3URL: http://www.microchip.com/stellent/groups/techpub_sg/documents/packagingspec/en012702.pdf
footprint DFN-MF8 (SON, 8-Leads, Body 3x3mm, Pitch 0.65mm, Microchip Recommended)
pins: 1 VIN (power), 2 VIN (power), 3 ~{SHDN} (in), 4 GND (power), 5 PWRGD (power), 6 CDELAY, 7 VOUT (power), 8 VOUT (power), 9 EP (power)

## MCP1726T-3302E/SN
designator U?
1A, Low Voltage, Low Quiescent Current LDO Regulator, 8-Pin SOIC 150mil, Extended Temperature, Tape and Reel; Manufacturer: Microchip; PartNumber: MCP1726T-3302E/SN; DatasheetVersion: revC, Aug-2007; PackageVersion: revBB, Aug-2009; PackageReference: SOIC-SN8; PackageDescription: 8-Lead Plastic Small Outline (SN) - Narrow, 3.90mm Body [SOIC]; Supplier 1: Digi-Key; Supplier Part Number 1: MCP1726T-3302E/SN-ND; Supplier 2: Mouser; Supplier Part Number 2: 579-MCP1726T3302E/SN; Mounting Technology: Surface Mount; Code_JEDEC: MS-012; Code_IPC: SOIC127P600-8; ComponentLink1Description: Manufacturer URL; ComponentLink1URL: http://www.microchip.com/; ComponentLink2Description: Datasheet; ComponentLink2URL: http://ww1.microchip.com/downloads/en/DeviceDoc/21936c.pdf; ComponentLink3Description: Package Specification; ComponentLink3URL: http://www.microchip.com/stellent/groups/techpub_sg/documents/packagingspec/en012702.pdf
footprint SOIC-SN8_N (SOIC, 8-Leads, Body 4.9x3.8mm, Pitch 1.27mm, IPC Medium Density)
footprint SOIC-SN8_L (SOIC, 8-Leads, Body 4.9x3.8mm, Pitch 1.27mm, IPC High Density)
footprint SOIC-SN8_M (SOIC, 8-Leads, Body 4.9x3.8mm, Pitch 1.27mm, IPC Low Density)
pins: 1 VIN (power), 2 VIN (power), 3 ~{SHDN} (in), 4 GND (power), 5 PWRGD (power), 6 CDELAY, 7 VOUT (power), 8 VOUT (power)

## MCP1726T-5002E/MF
designator U?
1A, Low Voltage, Low Quiescent Current LDO Regulator, 8-Pin DFN, Extended Temperature, Tape and Reel; Manufacturer: Microchip; PartNumber: MCP1726T-5002E/MF; DatasheetVersion: revC, Aug-2007; PackageVersion: revBB, Aug-2009; PackageReference: DFN-MF8; PackageDescription: 8-Lead Plastic Dual Flat, No Lead Package (MF) - 3x3x0.9mm Body [DFN]; Supplier 1: Digi-Key; Supplier Part Number 1: MCP1726T-5002E/MF-ND; Supplier 2: Farnell; Supplier Part Number 2: 1851972; Supplier 3: Newark; Supplier Part Number 3: 08J8722; Supplier 4: Mouser; Supplier Part Number 4: 579-MCP1726T5002E/MF; Mounting Technology: Surface Mount; ComponentLink1Description: Manufacturer URL; ComponentLink1URL: http://www.microchip.com/; ComponentLink2Description: Datasheet; ComponentLink2URL: http://ww1.microchip.com/downloads/en/DeviceDoc/21936c.pdf; ComponentLink3Description: Package Specification; ComponentLink3URL: http://www.microchip.com/stellent/groups/techpub_sg/documents/packagingspec/en012702.pdf
footprint DFN-MF8 (SON, 8-Leads, Body 3x3mm, Pitch 0.65mm, Microchip Recommended)
pins: 1 VIN (power), 2 VIN (power), 3 ~{SHDN} (in), 4 GND (power), 5 PWRGD (power), 6 CDELAY, 7 VOUT (power), 8 VOUT (power), 9 EP (power)

## MCP1726T-5002E/SN
designator U?
1A, Low Voltage, Low Quiescent Current LDO Regulator, 8-Pin SOIC 150mil, Extended Temperature, Tape and Reel; Manufacturer: Microchip; PartNumber: MCP1726T-5002E/SN; DatasheetVersion: revC, Aug-2007; PackageVersion: revBB, Aug-2009; PackageReference: SOIC-SN8; PackageDescription: 8-Lead Plastic Small Outline (SN) - Narrow, 3.90mm Body [SOIC]; Supplier 1: Digi-Key; Supplier Part Number 1: MCP1726T-5002E/SN-ND; Supplier 2: Mouser; Supplier Part Number 2: 579-MCP1726T5002E/SN; Mounting Technology: Surface Mount; Code_JEDEC: MS-012; Code_IPC: SOIC127P600-8; ComponentLink1Description: Manufacturer URL; ComponentLink1URL: http://www.microchip.com/; ComponentLink2Description: Datasheet; ComponentLink2URL: http://ww1.microchip.com/downloads/en/DeviceDoc/21936c.pdf; ComponentLink3Description: Package Specification; ComponentLink3URL: http://www.microchip.com/stellent/groups/techpub_sg/documents/packagingspec/en012702.pdf
footprint SOIC-SN8_N (SOIC, 8-Leads, Body 4.9x3.8mm, Pitch 1.27mm, IPC Medium Density)
footprint SOIC-SN8_L (SOIC, 8-Leads, Body 4.9x3.8mm, Pitch 1.27mm, IPC High Density)
footprint SOIC-SN8_M (SOIC, 8-Leads, Body 4.9x3.8mm, Pitch 1.27mm, IPC Low Density)
pins: 1 VIN (power), 2 VIN (power), 3 ~{SHDN} (in), 4 GND (power), 5 PWRGD (power), 6 CDELAY, 7 VOUT (power), 8 VOUT (power)

## MCP1726T-ADJE/MF
designator U?
1A, Low Voltage, Low Quiescent Current LDO Regulator, 8-Pin DFN, Extended Temperature, Tape and Reel; Manufacturer: Microchip; PartNumber: MCP1726T-ADJE/MF; DatasheetVersion: revC, Aug-2007; PackageVersion: revBB, Aug-2009; PackageReference: DFN-MF8; PackageDescription: 8-Lead Plastic Dual Flat, No Lead Package (MF) - 3x3x0.9mm Body [DFN]; Supplier 1: Digi-Key; Supplier Part Number 1: MCP1726T-ADJE/MF-ND; Supplier 2: Newark; Supplier Part Number 2: 22K1364; Supplier 3: Mouser; Supplier Part Number 3: 579-MCP1726T-ADJE/MF; Mounting Technology: Surface Mount; ComponentLink1Description: Manufacturer URL; ComponentLink1URL: http://www.microchip.com/; ComponentLink2Description: Datasheet; ComponentLink2URL: http://ww1.microchip.com/downloads/en/DeviceDoc/21936c.pdf; ComponentLink3Description: Package Specification; ComponentLink3URL: http://www.microchip.com/stellent/groups/techpub_sg/documents/packagingspec/en012702.pdf
footprint DFN-MF8 (SON, 8-Leads, Body 3x3mm, Pitch 0.65mm, Microchip Recommended)
pins: 1 VIN (power), 2 VIN (power), 3 ~{SHDN} (in), 4 GND (power), 5 PWRGD (power), 6 CDELAY, 7 ADJ (in), 8 VOUT (power), 9 EP (power)

## MCP1726T-ADJE/SN
designator U?
1A, Low Voltage, Low Quiescent Current LDO Regulator, 8-Pin SOIC 150mil, Extended Temperature, Tape and Reel; Manufacturer: Microchip; PartNumber: MCP1726T-ADJE/SN; DatasheetVersion: revC, Aug-2007; PackageVersion: revBB, Aug-2009; PackageReference: SOIC-SN8; PackageDescription: 8-Lead Plastic Small Outline (SN) - Narrow, 3.90mm Body [SOIC]; Supplier 1: Digi-Key; Supplier Part Number 1: MCP1726T-ADJE/SN-ND; Supplier 2: Mouser; Supplier Part Number 2: 579-MCP1726T-ADJE/SN; Mounting Technology: Surface Mount; Code_JEDEC: MS-012; Code_IPC: SOIC127P600-8; ComponentLink1Description: Manufacturer URL; ComponentLink1URL: http://www.microchip.com/; ComponentLink2Description: Datasheet; ComponentLink2URL: http://ww1.microchip.com/downloads/en/DeviceDoc/21936c.pdf; ComponentLink3Description: Package Specification; ComponentLink3URL: http://www.microchip.com/stellent/groups/techpub_sg/documents/packagingspec/en012702.pdf
footprint SOIC-SN8_N (SOIC, 8-Leads, Body 4.9x3.8mm, Pitch 1.27mm, IPC Medium Density)
footprint SOIC-SN8_L (SOIC, 8-Leads, Body 4.9x3.8mm, Pitch 1.27mm, IPC High Density)
footprint SOIC-SN8_M (SOIC, 8-Leads, Body 4.9x3.8mm, Pitch 1.27mm, IPC Low Density)
pins: 1 VIN (power), 2 VIN (power), 3 ~{SHDN} (in), 4 GND (power), 5 PWRGD (power), 6 CDELAY, 7 ADJ (in), 8 VOUT (power)

## MCP1727-0802E/MF
designator U?
1.5A, Low Voltage, Low Quiescent Current LDO Regulator, 8-Pin DFN, Extended Temperature; Manufacturer: Microchip; PartNumber: MCP1727-0802E/MF; DatasheetVersion: revB, Feb-2007; PackageVersion: revBB, Aug-2009; PackageReference: DFN-MF8; PackageDescription: 8-Lead Plastic Dual Flat, No Lead Package (MF) - 3x3x0.9mm Body [DFN]; Supplier 1: Digi-Key; Supplier Part Number 1: MCP1727-0802E/MF-ND; Supplier 2: Mouser; Supplier Part Number 2: 579-MCP1727-0802E/MF; Mounting Technology: Surface Mount; ComponentLink1Description: Manufacturer URL; ComponentLink1URL: http://www.microchip.com/; ComponentLink2Description: Datasheet; ComponentLink2URL: http://ww1.microchip.com/downloads/en/DeviceDoc/21999b.pdf; ComponentLink3Description: Package Specification; ComponentLink3URL: http://www.microchip.com/stellent/groups/techpub_sg/documents/packagingspec/en012702.pdf
footprint DFN-MF8 (SON, 8-Leads, Body 3x3mm, Pitch 0.65mm, Microchip Recommended)
pins: 1 VIN (power), 2 VIN (power), 3 ~{SHDN} (in), 4 GND (power), 5 PWRGD (power), 6 CDELAY, 7 SENSE, 8 VOUT (power), 9 EP (power)

## MCP1727-0802E/SN
designator U?
1.5A, Low Voltage, Low Quiescent Current LDO Regulator, 8-Pin SOIC 150mil, Extended Temperature; Manufacturer: Microchip; PartNumber: MCP1727-0802E/SN; DatasheetVersion: revB, Feb-2007; PackageVersion: revBB, Aug-2009; PackageReference: SOIC-SN8; PackageDescription: 8-Lead Plastic Small Outline (SN) - Narrow, 3.90mm Body [SOIC]; Supplier 1: Digi-Key; Supplier Part Number 1: MCP1727-0802E/SN-ND; Supplier 2: Mouser; Supplier Part Number 2: 579-MCP1727-0802E/SN; Mounting Technology: Surface Mount; Code_JEDEC: MS-012; Code_IPC: SOIC127P600-8; ComponentLink1Description: Manufacturer URL; ComponentLink1URL: http://www.microchip.com/; ComponentLink2Description: Datasheet; ComponentLink2URL: http://ww1.microchip.com/downloads/en/DeviceDoc/21999b.pdf; ComponentLink3Description: Package Specification; ComponentLink3URL: http://www.microchip.com/stellent/groups/techpub_sg/documents/packagingspec/en012702.pdf
footprint SOIC-SN8_N (SOIC, 8-Leads, Body 4.9x3.8mm, Pitch 1.27mm, IPC Medium Density)
footprint SOIC-SN8_L (SOIC, 8-Leads, Body 4.9x3.8mm, Pitch 1.27mm, IPC High Density)
footprint SOIC-SN8_M (SOIC, 8-Leads, Body 4.9x3.8mm, Pitch 1.27mm, IPC Low Density)
pins: 1 VIN (power), 2 VIN (power), 3 ~{SHDN} (in), 4 GND (power), 5 PWRGD (power), 6 CDELAY, 7 SENSE, 8 VOUT (power)

## MCP1727-1202E/MF
designator U?
1.5A, Low Voltage, Low Quiescent Current LDO Regulator, 8-Pin DFN, Extended Temperature; Manufacturer: Microchip; PartNumber: MCP1727-1202E/MF; DatasheetVersion: revB, Feb-2007; PackageVersion: revBB, Aug-2009; PackageReference: DFN-MF8; PackageDescription: 8-Lead Plastic Dual Flat, No Lead Package (MF) - 3x3x0.9mm Body [DFN]; Supplier 1: Digi-Key; Supplier Part Number 1: MCP1727-1202E/MF-ND; Supplier 2: Farnell; Supplier Part Number 2: 1851973; Supplier 3: Newark; Supplier Part Number 3: 74K5378; Supplier 4: Mouser; Supplier Part Number 4: 579-MCP1727-1202E/MF; Mounting Technology: Surface Mount; ComponentLink1Description: Manufacturer URL; ComponentLink1URL: http://www.microchip.com/; ComponentLink2Description: Datasheet; ComponentLink2URL: http://ww1.microchip.com/downloads/en/DeviceDoc/21999b.pdf; ComponentLink3Description: Package Specification; ComponentLink3URL: http://www.microchip.com/stellent/groups/techpub_sg/documents/packagingspec/en012702.pdf
footprint DFN-MF8 (SON, 8-Leads, Body 3x3mm, Pitch 0.65mm, Microchip Recommended)
pins: 1 VIN (power), 2 VIN (power), 3 ~{SHDN} (in), 4 GND (power), 5 PWRGD (power), 6 CDELAY, 7 SENSE, 8 VOUT (power), 9 EP (power)

## MCP1727-1202E/SN
designator U?
1.5A, Low Voltage, Low Quiescent Current LDO Regulator, 8-Pin SOIC 150mil, Extended Temperature; Manufacturer: Microchip; PartNumber: MCP1727-1202E/SN; DatasheetVersion: revB, Feb-2007; PackageVersion: revBB, Aug-2009; PackageReference: SOIC-SN8; PackageDescription: 8-Lead Plastic Small Outline (SN) - Narrow, 3.90mm Body [SOIC]; Supplier 1: Digi-Key; Supplier Part Number 1: MCP1727-1202E/SN-ND; Supplier 2: Farnell; Supplier Part Number 2: 1851975; Supplier 3: Newark; Supplier Part Number 3: 74K5379; Supplier 4: Mouser; Supplier Part Number 4: 579-MCP1727-1202E/SN; Mounting Technology: Surface Mount; Code_JEDEC: MS-012; Code_IPC: SOIC127P600-8; ComponentLink1Description: Manufacturer URL; ComponentLink1URL: http://www.microchip.com/; ComponentLink2Description: Datasheet; ComponentLink2URL: http://ww1.microchip.com/downloads/en/DeviceDoc/21999b.pdf; ComponentLink3Description: Package Specification; ComponentLink3URL: http://www.microchip.com/stellent/groups/techpub_sg/documents/packagingspec/en012702.pdf
footprint SOIC-SN8_N (SOIC, 8-Leads, Body 4.9x3.8mm, Pitch 1.27mm, IPC Medium Density)
footprint SOIC-SN8_L (SOIC, 8-Leads, Body 4.9x3.8mm, Pitch 1.27mm, IPC High Density)
footprint SOIC-SN8_M (SOIC, 8-Leads, Body 4.9x3.8mm, Pitch 1.27mm, IPC Low Density)
pins: 1 VIN (power), 2 VIN (power), 3 ~{SHDN} (in), 4 GND (power), 5 PWRGD (power), 6 CDELAY, 7 SENSE, 8 VOUT (power)

## MCP1727-1802E/MF
designator U?
1.5A, Low Voltage, Low Quiescent Current LDO Regulator, 8-Pin DFN, Extended Temperature; Manufacturer: Microchip; PartNumber: MCP1727-1802E/MF; DatasheetVersion: revB, Feb-2007; PackageVersion: revBB, Aug-2009; PackageReference: DFN-MF8; PackageDescription: 8-Lead Plastic Dual Flat, No Lead Package (MF) - 3x3x0.9mm Body [DFN]; Supplier 1: Digi-Key; Supplier Part Number 1: MCP1727-1802E/MF-ND; Supplier 2: Farnell; Supplier Part Number 2: 1863929; Supplier 3: Newark; Supplier Part Number 3: 74K5380; Supplier 4: Mouser; Supplier Part Number 4: 579-MCP1727-1802E/MF; Mounting Technology: Surface Mount; ComponentLink1Description: Manufacturer URL; ComponentLink1URL: http://www.microchip.com/; ComponentLink2Description: Datasheet; ComponentLink2URL: http://ww1.microchip.com/downloads/en/DeviceDoc/21999b.pdf; ComponentLink3Description: Package Specification; ComponentLink3URL: http://www.microchip.com/stellent/groups/techpub_sg/documents/packagingspec/en012702.pdf
footprint DFN-MF8 (SON, 8-Leads, Body 3x3mm, Pitch 0.65mm, Microchip Recommended)
pins: 1 VIN (power), 2 VIN (power), 3 ~{SHDN} (in), 4 GND (power), 5 PWRGD (power), 6 CDELAY, 7 SENSE, 8 VOUT (power), 9 EP (power)